# Altium schematic symbol library AltiumLibraries.SchLib: 565 symbols (part 4 of 5)
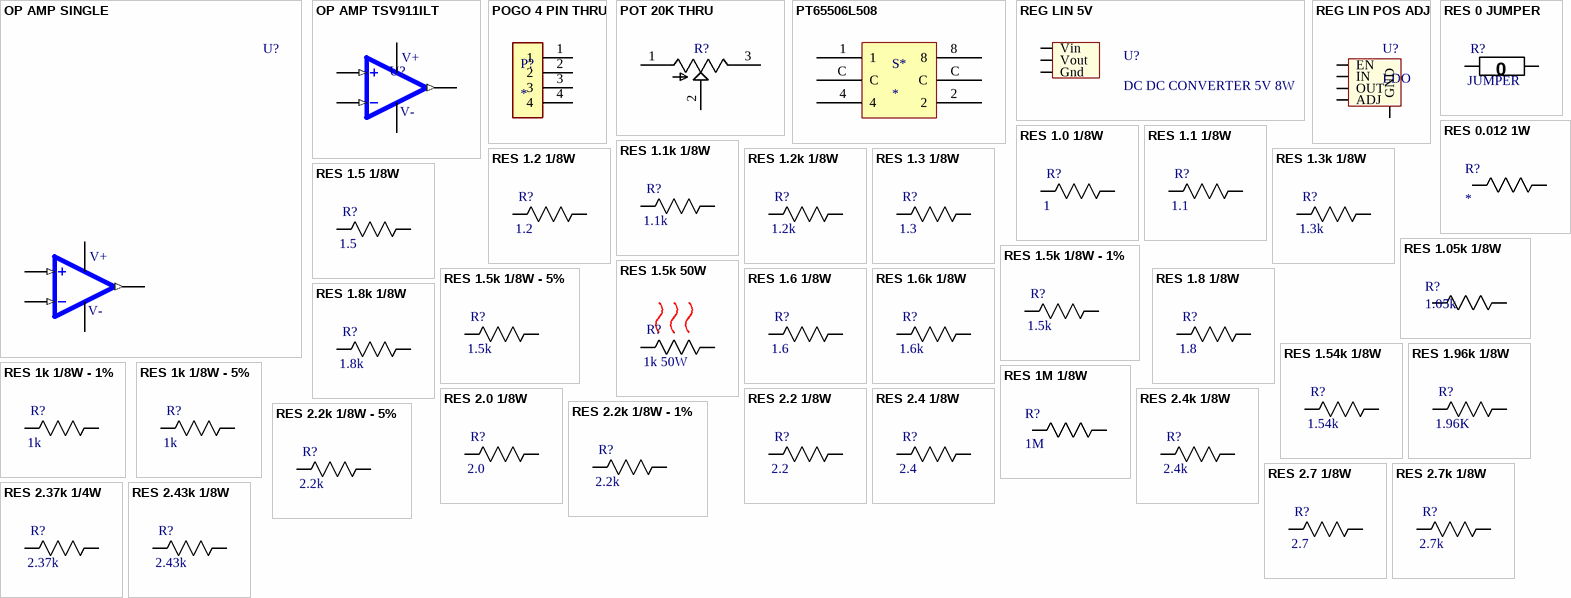
[diagram p18: symbols OP AMP SINGLE to RES 2.43k 1/8W]

## POT 20K THRU
designator R?, comment 20K  (value not drawn)
TRIMMER 20K OHM 0.5W PC PIN TOP - Phillips Screw head; MF: Bourns Inc.; MP: 3362P-1-203RLF; ComponentLink1Description: Digikey Link; ComponentLink1URL: https://www.digikey.ca/product-detail/en/bourns-inc/3362P-1-203RLF/3362P-1-203RLFCT-ND/3767981; Digikey: 3362P-1-203RLF; Package: Through Hole; Price: 3.05 CAD; ComponentLink2Description: SnapEDA Link (205, since 203 DNE); ComponentLink2URL: https://www.snapeda.com/parts/3362P-1-205LF/Bourns%20-%20J.W.%20Miller/view-part/463695/
footprint Potentiometer 20K
pins: 1 CCW, 2 WIPER, 3 CW

## PT65506L508
designator S*
Rotary Dip Switch - 16 position Hexadecimal Complement Through Hole, Right Angle Rotary with Knob Actuator 150mA 24VDC; MF: APEM Inc.; MP: PT65506L508; ComponentLink1Description: Digikey Link; ComponentLink1URL: https://www.digikey.com/en/products/detail/apem-inc/PT65506L508/1797072; ComponentLink2Description: SnapEDA Link; ComponentLink2URL: https://www.snapeda.com/parts/PT65506L508/APEM%20Inc./view-part/?ref=search&t=PT65506L508; Digikey: PT65506L508; Package: Through Hole Right Angle; Price: $5.48240
footprint PT65506L508 (Rotary Dip Switch Hexadecimal Complement 16 Position Through Hole, Right Angle Rotary with Knob Actuator 150mA 24VDC)
pins: 1, 2, 4, 8, C, C

## REG LIN 5V
designator U?, comment DC DC CONVERTER 5V 8W
Linear Regulator Replacement DC DC Converter 1 Output 5V 1.5A 7V - 36V Input; MF: Murata Power Solutions Inc.; MP: OKI-78SR-5/1.5-W36H-C; ComponentLink1Description: digikey; ComponentLink1URL: https://www.digikey.ca/product-detail/en/murata-power-solutions-inc/OKI-78SR-5-1.5-W36H-C/811-2692-ND/3438675; Digikey: 811-2692-ND; Digikey Link: https://www.digikey.ca/products/en?keywords=OKI-78SR-5%2F1.5-W36H-C; Output Voltage: 5V; Power: 8W; Output Current (Max): 1.5A; Supplier 1: Digi-Key; Supplier Part Number 1: 811-2692-ND
footprint 3-SIP R/A
pins: Gnd, Vin, Vout

## REG LIN POS ADJ
designator U?, comment LDO
Linear Voltage Regulator IC  1 Output  500mA 8-SOIC; MF: Texas Instruments; MP: TL5209DR; Digikey: 296-21569-1-ND; Digikey Link: https://www.digikey.ca/product-detail/en/texas-instruments/TL5209DR/296-21569-1-ND/1427137; Price: 1.548 CAD; Rating: 500mA; Package: 8 SOIC; Supplier 1: Digi-Key; Supplier Part Number 1: 296-21569-1-ND
footprint REG LIN POS ADJ 500MA 8SOIC (Linear Voltage Regulator IC  1 Output  500mA 8-SOIC)
pins: ADJ, EN, GND, IN, OUT

## RES 0 JUMPER
designator R?, comment JUMPER
RES SMD 0 OHM JUMPER GENERIC 0805/0603; Value: 0; Package: 0805
footprint 0805
footprint 0603
pins: 1 R1, 2 R2

## RES 0.012 1W
designator R?
footprint 1206
pins: 1 R1, 2 R2

## RES 1.0 1/8W
designator R?, comment 1
RES SMD 1.0 OHM 5% 1/8W 0805; Power (Watts): 0.125W; Package: 0805; Value: 1; Tolerance: 5%
footprint 0805
footprint 0603
pins: 1 R1, 2 R2

## RES 1.1 1/8W
designator R?, comment 1.1
RES SMD 1.1 OHM 5% 1/8W 0805; Power (Watts): 0.125W; Package: 0805; Value: 1.1; Tolerance: 5%
footprint 0805
footprint 0603
pins: 1 R1, 2 R2

## RES 1.1k 1/8W
designator R?, comment 1.1k
RES SMD 1.1K OHM 5% 1/8W 0805; Power (Watts): 0.125W; Package: 0805; Value: 1.1k; Tolerance: 5%
footprint 0805
footprint 0603
pins: 1 R1, 2 R2

## RES 1.2 1/8W
designator R?, comment 1.2
RES SMD 1.2 OHM 5% 1/8W 0805; Power (Watts): 0.125W; Package: 0805; Value: 1.2; Tolerance: 5%
footprint 0805
footprint 0603
pins: 1 R1, 2 R2

## RES 1.2k 1/8W
designator R?, comment 1.2k
RES SMD 1.2K OHM 5% 1/8W 0805; Power (Watts): 0.125W; Package: 0805; Value: 1.2k; Tolerance: 5%
footprint 0805
footprint 0603
pins: 1 R1, 2 R2

## RES 1.3 1/8W
designator R?, comment 1.3
RES SMD 1.3 OHM 5% 1/8W 0805; Power (Watts): 0.125W; Package: 0805; Value: 1.3; Tolerance: 5%
footprint 0805
footprint 0603
pins: 1 R1, 2 R2

## RES 1.3k 1/8W
designator R?, comment 1.3k
RES SMD 1.3K OHM 5% 1/8W 0805; Power (Watts): 0.125W; Package: 0805; Value: 1.3k; Tolerance: 5%
footprint 0805
footprint 0603
pins: 1 R1, 2 R2

## RES 1.5 1/8W
designator R?, comment 1.5
RES SMD 1.5 OHM 5% 1/8W 0805; Power (Watts): 0.125W; Package: 0805; Value: 1.5; Tolerance: 5%
footprint 0805
footprint 0603
pins: 1 R1, 2 R2

## RES 1.05k 1/8W
designator R?, comment 1.05k
RES SMD 1.05K OHM 0.1% 1/8W 0805/0603; Wattage: 0.125W; Supplier 1: Digi-Key; Value: 1.05k; Package: 0805; Tolerance: 0.1%; Supplier Part Number 1: P1.05KDACT-ND
footprint 0805
footprint 0603
pins: 1 R1, 2 R2

## RES 1.5k 1/8W - 1%
designator R?, comment 1.5k
RES SMD 1.5K OHM 1% 1/8W 0805; Power (Watts): 0.125W; Package: 0805; Value: 1.5k; Tolerance: 1%; ComponentLink1Description: digikey; ComponentLink1URL: https://www.digikey.ca/en/products/detail/panasonic-electronic-components/ERJ-6ENF1022V/111476
footprint 0805
footprint 0603
pins: 1 R1, 2 R2

## RES 1.5k 1/8W - 5%
designator R?, comment 1.5k
RES SMD 1.5K OHM 5% 1/8W 0805; Power (Watts): 0.125W; Package: 0805; Value: 1.5k; Tolerance: 5%
footprint 0805
footprint 0603
pins: 1 R1, 2 R2

## RES 1.5k 50W
designator R?, comment 1k 50W
RES SMD 1.5K OHM 1% 50W D2PAK; Package: D2PAK (TO-263); Value: 1.5k; Power (Watts): 50W; Tolerance: 1%
footprint D2PAK (TO-263)
pins: 1 R1, 2 R2, 3

## RES 1.6 1/8W
designator R?, comment 1.6
RES SMD 1.6 OHM 5% 1/8W 0805; Power (Watts): 0.125W; Package: 0805; Value: 1.6; Tolerance: 5%
footprint 0805
footprint 0603
pins: 1 R1, 2 R2

## RES 1.6k 1/8W
designator R?, comment 1.6k
RES SMD 1.6K OHM 5% 1/8W 0805; Power (Watts): 0.125W; Package: 0805; Value: 1.6k; Tolerance: 5%
footprint 0805
footprint 0603
pins: 1 R1, 2 R2

## RES 1.8 1/8W
designator R?, comment 1.8
RES SMD 1.8 OHM 5% 1/8W 0805; Power (Watts): 0.125W; Package: 0805; Value: 1.8; Tolerance: 5%
footprint 0805
footprint 0603
pins: 1 R1, 2 R2

## RES 1.8k 1/8W
designator R?, comment 1.8k
RES SMD 1.8K OHM 5% 1/8W 0805; Power (Watts): 0.125W; Package: 0805; Value: 1.8k; Tolerance: 5%
footprint 0805
footprint 0603
pins: 1 R1, 2 R2

## RES 1.54k 1/8W
designator R?, comment 1.54k
RES SMD 1.54K OHM 1% 1/8W 0805; Power (Watts): 0.125W; Package: 0805; Value: 1.54k; Tolerance: 1%
footprint 0805
footprint 0603
pins: 1 R1, 2 R2

## RES 1.96k 1/8W
designator R?, comment 1.96K
RES SMD 1.96K OHM 1% 1/8W 0805; Power (Watts): 0.125W; Package: 0805; Value: 1.96k; Tolerance: 1%
footprint 0805
footprint 0603
pins: 1 R1, 2 R2

## RES 1k 1/8W - 1%
designator R?, comment 1k
RES SMD 1K OHM 1% 1/8W 0603/0805; Power (Watts): 0.125W; Package: 0805; Value: 1k; Tolerance: 1%
footprint 0805
footprint 0603
pins: 1 R1, 2 R2

## RES 1k 1/8W - 5%
designator R?, comment 1k
RES SMD 1K OHM 5% 1/8W 0603/0805; Power (Watts): 0.125W; Package: 0805; Value: 1k; Tolerance: 5%
footprint 0805
footprint 0603
pins: 1 R1, 2 R2

## RES 1M 1/8W
designator R?, comment 1M
RES SMD 1M OHM 0.1% 1/8W 0805; Power (Watts): 0.125W; Tolerance: 5%; Package: 0805; Value: 1M
footprint 0805
pins: 1 R1, 2 R2

## RES 2.0 1/8W
designator R?, comment 2.0
RES SMD 2.0 OHM 5% 1/8W 0805; Power (Watts): 0.125W; Package: 0805; Value: 2.0; Tolerance: 5%
footprint 0805
footprint 0603
pins: 1 R1, 2 R2

## RES 2.2 1/8W
designator R?, comment 2.2
RES SMD 2.2 OHM 5% 1/8W 0805; Power (Watts): 0.125W; Package: 0805; Value: 2.2; Tolerance: 5%
footprint 0805
footprint 0603
pins: 1 R1, 2 R2

## RES 2.2k 1/8W - 1%
designator R?, comment 2.2k
RES SMD 2.2K OHM 1% 1/8W 0805; Power (Watts): 0.125W; Package: 0805; Value: 2.2k; Tolerance: 1%
footprint 0805
footprint 0603
pins: 1 R1, 2 R2

## RES 2.2k 1/8W - 5%
designator R?, comment 2.2k
RES SMD 2.2K OHM 5% 1/8W 0805; Power (Watts): 0.125W; Package: 0805; Value: 2.2k; Tolerance: 5%
footprint 0805
footprint 0603
pins: 1 R1, 2 R2

## RES 2.4 1/8W
designator R?, comment 2.4
RES SMD 2.4 OHM 5% 1/8W 0805; Power (Watts): 0.125W; Package: 0805; Value: 2.4; Tolerance: 5%
footprint 0805
footprint 0603
pins: 1 R1, 2 R2

## RES 2.4k 1/8W
designator R?, comment 2.4k
RES SMD 2.4K OHM 5% 1/8W 0805; Power (Watts): 0.125W; Package: 0805; Value: 2.4k; Tolerance: 5%
footprint 0805
footprint 0603
pins: 1 R1, 2 R2

## RES 2.7 1/8W
designator R?, comment 2.7
RES SMD 2.7 OHM 5% 1/8W 0805; Power (Watts): 0.125W; Package: 0805; Value: 2.7; Tolerance: 5%
footprint 0805
footprint 0603
pins: 1 R1, 2 R2

## RES 2.7k 1/8W
designator R?, comment 2.7k
RES SMD 2.7K OHM 5% 1/8W 0805; Power (Watts): 0.125W; Package: 0805; Value: 2.7k; Tolerance: 5%
footprint 0805
footprint 0603
pins: 1 R1, 2 R2

## RES 2.37k 1/4W
designator R?, comment 2.37k
RES SMD 2.37K OHM 1% 1/4W 0805; Power (Watts): 0.25W; Package: 0805; Value: 2.37k; Tolerance: 1%
footprint 0805
footprint 0603
pins: 1 R1, 2 R2

## RES 2.43k 1/8W
designator R?, comment 2.43k
RES SMD 2.43K OHM 5% 1/8W 0805; Power (Watts): 0.125W; Package: 0805; Value: 2.43k; Tolerance: 5%
footprint 0805
footprint 0603
pins: 1 R1, 2 R2

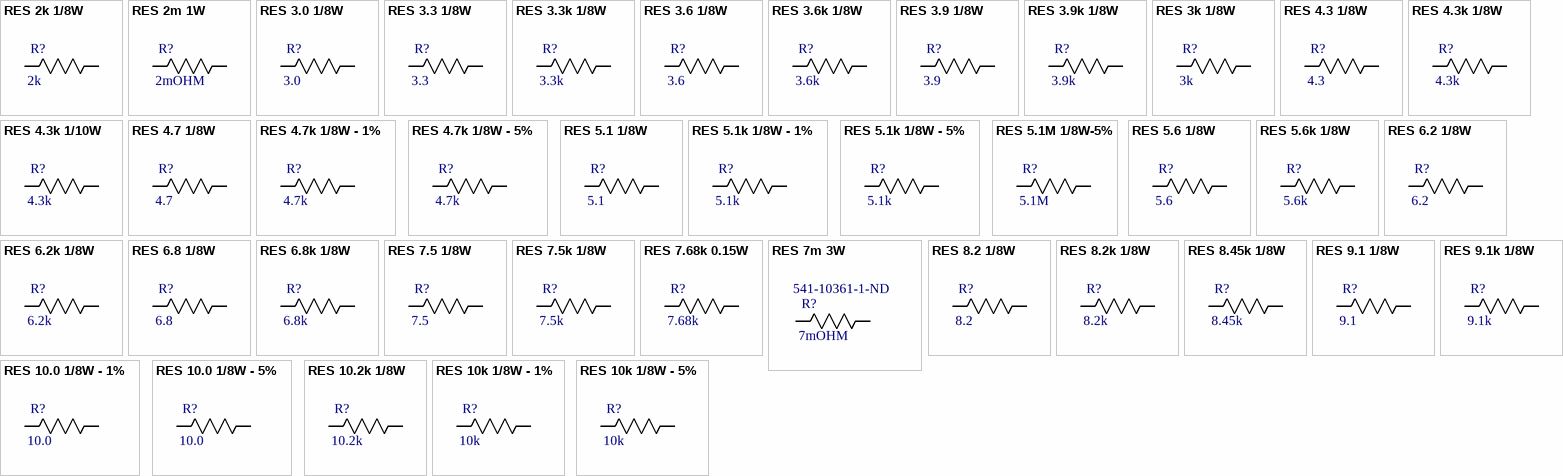
[diagram p9: symbols RES 2k 1/8W to RES 10k 1/8W - 5%]

## RES 2k 1/8W
designator R?, comment 2k
RES SMD 2K OHM 5% 1/8W 0805; Power (Watts): 0.125W; Package: 0805; Value: 2k; Tolerance: 5%
footprint 0805
footprint 0603
pins: 1 R1, 2 R2

## RES 2m 1W
designator R?, comment 2mOHM
RES SMD 2m OHM 1% 1W 1206; Package: 1206; Resistance: 2mOHM; Power (Watts): 1W; Tolerance: 1%
footprint 1206
footprint 2512 (Chip Resistor, 2-Leads, Body 6.35x3.10mm, IPC Low Density)
pins: 1 R1, 2 R2

## RES 3.0 1/8W
designator R?, comment 3.0
RES SMD 3.0 OHM 5% 1/8W 0805; Power (Watts): 0.125W; Package: 0805; Value: 3.0; Tolerance: 5%
footprint 0805
footprint 0603
pins: 1 R1, 2 R2

## RES 3.3 1/8W
designator R?, comment 3.3
RES SMD 3.3 OHM 5% 1/8W 0805; Power (Watts): 0.125W; Package: 0805; Value: 3.3; Tolerance: 5%
footprint 0805
footprint 0603
pins: 1 R1, 2 R2

## RES 3.3k 1/8W
designator R?, comment 3.3k
RES SMD 3.3K OHM 5% 1/8W 0805; Power (Watts): 0.125W; Package: 0805; Value: 3.3k; Tolerance: 5%
footprint 0805
footprint 0603
pins: 1 R1, 2 R2

## RES 3.6 1/8W
designator R?, comment 3.6
RES SMD 3.6 OHM 5% 1/8W 0805; Power (Watts): 0.125W; Package: 0805; Value: 3.6; Tolerance: 5%
footprint 0805
footprint 0603
pins: 1 R1, 2 R2

## RES 3.6k 1/8W
designator R?, comment 3.6k
RES SMD 3.6K OHM 5% 1/8W 0805; Power (Watts): 0.125W; Package: 0805; Value: 3.6k; Tolerance: 5%
footprint 0805
footprint 0603
pins: 1 R1, 2 R2

## RES 3.9 1/8W
designator R?, comment 3.9
RES SMD 3.9 OHM 5% 1/8W 0805; Power (Watts): 0.125W; Package: 0805; Value: 3.9; Tolerance: 5%
footprint 0805
footprint 0603
pins: 1 R1, 2 R2

## RES 3.9k 1/8W
designator R?, comment 3.9k
RES SMD 3.9K OHM 5% 1/8W 0805; Power (Watts): 0.125W; Package: 0805; Value: 3.9k; Tolerance: 5%
footprint 0805
footprint 0603
pins: 1 R1, 2 R2

## RES 3k 1/8W
designator R?, comment 3k
RES SMD 3K OHM 5% 1/8W 0805; Power (Watts): 0.125W; Package: 0805; Value: 3k; Tolerance: 5%
footprint 0805
footprint 0603
pins: 1 R1, 2 R2

## RES 4.3 1/8W
designator R?, comment 4.3
RES SMD 4.3 OHM 5% 1/8W 0805; Power (Watts): 0.125W; Package: 0805; Value: 4.3; Tolerance: 5%
footprint 0805
footprint 0603
pins: 1 R1, 2 R2

## RES 4.3k 1/8W
designator R?, comment 4.3k
RES SMD 4.3K OHM 5% 1/8W 0805; Power (Watts): 0.125W; Package: 0805; Value: 4.3k; Tolerance: 5%
footprint 0805
footprint 0603
pins: 1 R1, 2 R2

## RES 4.3k 1/10W
designator R?, comment 4.3k
RES SMD 4.3K OHM 1% 1/10W 0603; Power (Watts): 0.1W; Tolerance: 5%; Package: 0603; Value: 4.3k
footprint 0603
pins: 1 R1, 2 R2

## RES 4.7 1/8W
designator R?, comment 4.7
RES SMD 4.7 OHM 5% 1/8W 0805; Power (Watts): 0.125W; Package: 0805; Value: 4.7; Tolerance: 5%
footprint 0805
footprint 0603
pins: 1 R1, 2 R2

## RES 4.7k 1/8W - 1%
designator R?, comment 4.7k
RES SMD 4.7k OHM 1% 1/8W 0805; Power (Watts): 0.125W; Package: 0805; Value: 4.7k; Tolerance: 1%
footprint 0805
footprint 0603
pins: 1 R1, 2 R2

## RES 4.7k 1/8W - 5%
designator R?, comment 4.7k
RES SMD 4.7k OHM 5% 1/8W 0805; Power (Watts): 0.125W; Package: 0805; Value: 4.7k; Tolerance: 5%
footprint 0805
footprint 0603
pins: 1 R1, 2 R2

## RES 5.1 1/8W
designator R?, comment 5.1
RES SMD 5.1 OHM 5% 1/8W 0805; Power (Watts): 0.125W; Package: 0805; Value: 5.1; Tolerance: 5%
footprint 0805
footprint 0603
pins: 1 R1, 2 R2

## RES 5.1k 1/8W - 1%
designator R?, comment 5.1k
RES SMD 5.1K OHM 1% 1/8W 0805; Power (Watts): 0.125W; Package: 0805; Value: 5.1k; Tolerance: 1%
footprint 0805
footprint 0603
pins: 1 R1, 2 R2

## RES 5.1k 1/8W - 5%
designator R?, comment 5.1k
RES SMD 5.1K OHM 5% 1/8W 0805; Power (Watts): 0.125W; Package: 0805; Value: 5.1k; Tolerance: 5%
footprint 0805
footprint 0603
pins: 1 R1, 2 R2

## RES 5.1M 1/8W-5%
designator R?, comment 5.1M
RES SMD 5.1 MOHM 5% 1/8W 0805; Power (Watts): 0.125W; Package: 0805; Value: 5.1M; Tolerance: 5%
footprint 0805
footprint 0603
pins: 1 R1, 2 R2

## RES 5.6 1/8W
designator R?, comment 5.6
RES SMD 5.6 OHM 5% 1/8W 0805; Power (Watts): 0.125W; Package: 0805; Value: 5.6; Tolerance: 5%
footprint 0805
footprint 0603
pins: 1 R1, 2 R2

## RES 5.6k 1/8W
designator R?, comment 5.6k
RES SMD 5.6K OHM 5% 1/8W 0805; Power (Watts): 0.125W; Package: 0805; Value: 5.6k; Tolerance: 5%
footprint 0805
footprint 0603
pins: 1 R1, 2 R2

## RES 6.2 1/8W
designator R?, comment 6.2
RES SMD 6.2 OHM 5% 1/8W 0805; Power (Watts): 0.125W; Package: 0805; Value: 6.2; Tolerance: 5%
footprint 0805
footprint 0603
pins: 1 R1, 2 R2

## RES 6.2k 1/8W
designator R?, comment 6.2k
RES SMD 6.2K OHM 5% 1/8W 0805; Power (Watts): 0.125W; Package: 0805; Value: 6.2k; Tolerance: 5%
footprint 0805
footprint 0603
pins: 1 R1, 2 R2

## RES 6.8 1/8W
designator R?, comment 6.8
RES SMD 6.8 OHM 5% 1/8W 0805; Power (Watts): 0.125W; Package: 0805; Value: 6.8; Tolerance: 5%
footprint 0805
footprint 0603
pins: 1 R1, 2 R2

## RES 6.8k 1/8W
designator R?, comment 6.8k
RES SMD 6.8K OHM 5% 1/8W 0805; Power (Watts): 0.125W; Package: 0805; Value: 6.8k; Tolerance: 5%
footprint 0805
footprint 0603
pins: 1 R1, 2 R2

## RES 7.5 1/8W
designator R?, comment 7.5
RES SMD 7.5 OHM 5% 1/8W 0805; Power (Watts): 0.125W; Package: 0805; Value: 7.5; Tolerance: 5%
footprint 0805
footprint 0603
pins: 1 R1, 2 R2

## RES 7.5k 1/8W
designator R?, comment 7.5k
RES SMD 7.5K OHM 5% 1/8W 0805; Power (Watts): 0.125W; Package: 0805; Value: 7.5k; Tolerance: 5%
footprint 0805
footprint 0603
pins: 1 R1, 2 R2

## RES 7.68k 0.15W
designator R?, comment 7.68k
RES SMD 7.68K OHM 0.1% 0.15W 0805; Power (Watts): 0.125W; Tolerance: 5%; Package: 0805; Value: 7.68k
footprint 0805
footprint 0603
pins: 1 R1, 2 R2

## RES 7m 3W
designator R?, comment 7mOHM  Supplier Part Number 1: 541-10361-1-ND
RES SMD 7m OHM 1% 3W 2512; MFG: VISHAY; Package: 1206; Resistance: 7mOHM; Power (Watts): 3W; Tolerance: 1%; ComponentLink1Description: Digikey Link; ComponentLink1URL: https://www.digikey.com/en/products/detail/vishay-dale/WFMB2512R0500FEA/9972278; Digikey: 541-10282-1-ND; Supplier 1: Digi-Key
footprint 2512 (Chip Resistor, 2-Leads, Body 6.35x3.10mm, IPC Low Density)
pins: 1 R1, 2 R2

## RES 8.2 1/8W
designator R?, comment 8.2
RES SMD 8.2 OHM 5% 1/8W 0805; Power (Watts): 0.125W; Package: 0805; Value: 8.2; Tolerance: 5%
footprint 0805
footprint 0603
pins: 1 R1, 2 R2

## RES 8.2k 1/8W
designator R?, comment 8.2k
RES SMD 8.2K OHM 5% 1/8W 0805; Power (Watts): 0.125W; Package: 0805; Value: 8.2k; Tolerance: 5%
footprint 0805
footprint 0603
pins: 1 R1, 2 R2

## RES 8.45k 1/8W
designator R?, comment 8.45k
RES SMD 8.45k OHM 1% 1/8W 0603; Power (Watts): 0.125W; Package: 0603; Value: 8.45k; Tolerance: 1%
footprint 0603
pins: 1 R1, 2 R2

## RES 9.1 1/8W
designator R?, comment 9.1
RES SMD 9.1 OHM 5% 1/8W 0805; Power (Watts): 0.125W; Package: 0805; Value: 9.1; Tolerance: 5%
footprint 0805
footprint 0603
pins: 1 R1, 2 R2

## RES 9.1k 1/8W
designator R?, comment 9.1k
RES SMD 9.1K OHM 5% 1/8W 0805; Power (Watts): 0.125W; Package: 0805; Value: 9.1k; Tolerance: 5%
footprint 0805
footprint 0603
pins: 1 R1, 2 R2

## RES 10.0 1/8W - 1%
designator R?, comment 10.0
RES SMD 10.0 OHM 1% 1/8W 0805; Power (Watts): 0.125W; Package: 0805; Value: 10.0; Tolerance: 1%
footprint 0805
footprint 0603
pins: 1 R1, 2 R2

## RES 10.0 1/8W - 5%
designator R?, comment 10.0
RES SMD 10.0 OHM 5% 1/8W 0805; Power (Watts): 0.125W; Package: 0805; Value: 10.0; Tolerance: 5%
footprint 0805
footprint 0603
pins: 1 R1, 2 R2

## RES 10.2k 1/8W
designator R?, comment 10.2k
RES SMD 10.2K OHM 1% 1/8W 0805; Power (Watts): 0.125W; Package: 0805; Value: 10.2k; Tolerance: 1%; ComponentLink1Description: digikey; ComponentLink1URL: https://www.digikey.ca/en/products/detail/panasonic-electronic-components/ERJ-6ENF1022V/111476
footprint 0805
footprint 0603
pins: 1 R1, 2 R2

## RES 10k 1/8W - 1%
designator R?, comment 10k
RES SMD 10K OHM 1% 1/8W 0805/0603; Power (Watts): 0.125W; Package: 0805; Value: 10k; Tolerance: 1%
footprint 0805
footprint 0603
pins: 1 R1, 2 R2

## RES 10k 1/8W - 5%
designator R?, comment 10k
RES SMD 10K OHM 5% 1/8W 0805/0603; Power (Watts): 0.125W; Package: 0805; Value: 10k; Tolerance: 5%
footprint 0805
footprint 0603
pins: 1 R1, 2 R2

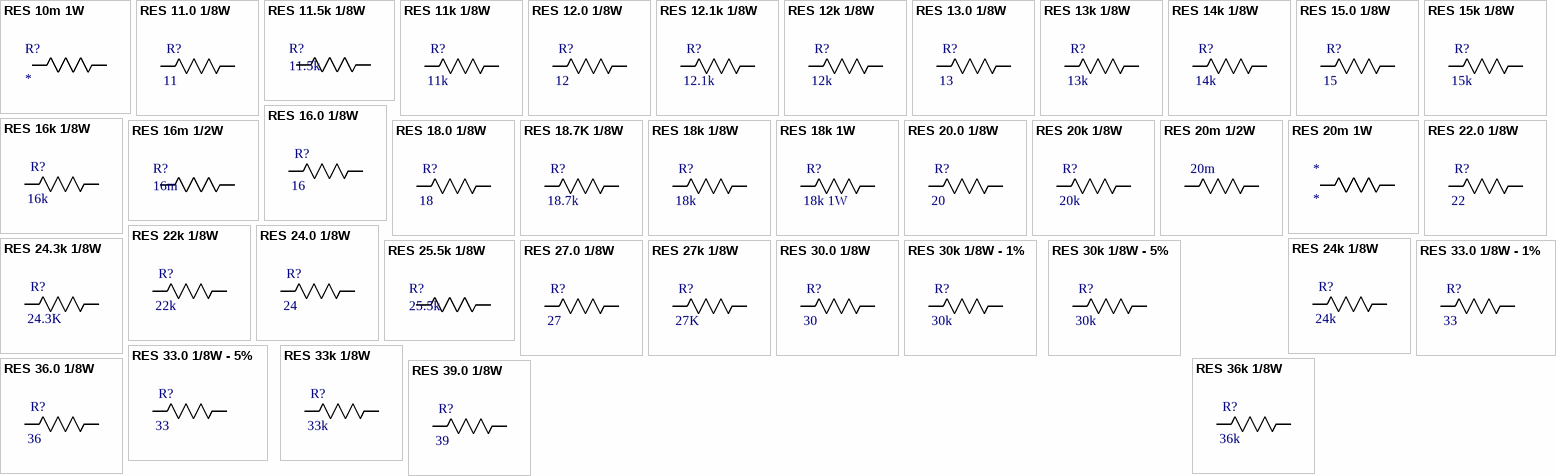
[diagram p10: symbols RES 10m 1W to RES 39.0 1/8W]

## RES 10m 1W
designator R?
RES SMD 0.02 OHM 1% 1W 1206
footprint 1206
pins: 1 R1, 2 R2

## RES 11.0 1/8W
designator R?, comment 11
RES SMD 11 OHM 5% 1/8W 0805; Power (Watts): 0.125W; Package: 0805; Value: 11; Tolerance: 5%
footprint 0805
footprint 0603
pins: 1 R1, 2 R2

## RES 11.5k 1/8W
designator R?, comment 11.5k
RES SMD 11.5K OHM 0.1% 1/8W 0805 Thin Film; Manufacturer: Panasonic; Manufacturer Part Number: ERA-6AEB1152V; Power Rating: 125mW; Resistance: 11.5kR; Voltage Rating: 100V; Temperature Coefficient: 25ppm/°C; Supplier 1: Digi-Key; RoHS: Yes; Category: Chip SMD Resistors; Stock 1: 10661; Pricing 1: 1=0.34000, 10=0.28800, 100=0.11260, 1000=0.04712, 2500=0.04320 (USD); Mount: Surface Mount; Case/Package: 0805; Number of Pins: 2; Case Code (Metric): 2012; Case Code (Imperial): 0805; Contact Plating: Tin; Min Operating Temperature: -55°C; Max Operating Temperature: 155°C; Tolerance: 0.1%; Packaging: Tape and Reel; Max Power Dissipation: 125mW; Composition: Thin Film,Metal Film; Number of Terminations: 2; Voltage Rating (DC): 100V; Termination: Solder; Military Standard: Not; Package Quantity: 1; Features: Automotive AEC-Q200; Length: 2mm; Height: 0.5mm; Width: 1.25mm; Depth: 1.25mm; Radiation Hardening: No; Lead Free: Lead Free; ComponentLink1URL: https://datasheet.ciiva.com/11810/0900766b80eb1d8c-11810868.pdf?src-supplier=RSComponents; ComponentLink1Description: https://datasheet.ciiva.com/11810/0900766b80eb1d8c-11810868.pdf?src-supplier=RSComponents; ComponentLink2URL: https://datasheet.ciiva.com/41450/001181306-da-01-en-widerstand-era-0805-11k5-0-1-5000st-41450464.pdf?src-supplier=Conrad; ComponentLink2Description: https://datasheet.ciiva.com/41450/001181306-da-01-en-widerstand-era-0805-11k5-0-1-5000st-41450464.pdf?src-supplier=Conrad; ComponentLink3URL: https://datasheet.ciiva.com/5987/485442-5987301.pdf?src-supplier=Farnell; ComponentLink3Description: https://datasheet.ciiva.com/5987/485442-5987301.pdf?src-supplier=Farnell; ComponentLink4URL: https://datasheet.ciiva.com/7829/485442-7829142.pdf?src-supplier=Element14; ComponentLink4Description: https://datasheet.ciiva.com/7829/485442-7829142.pdf?src-supplier=Element14; ComponentLink5URL: https://datasheet.ciiva.com/17211/aoa0000ce26-17211855.pdf?src-supplier=Avnet+Europe; ComponentLink5Description: https://datasheet.ciiva.com/17211/aoa0000ce26-17211855.pdf?src-supplier=Avnet+Europe; ComponentLink6URL: https://datasheet.ciiva.com/7829/485442-7829143.pdf?src-supplier=Element14; ComponentLink6Description: https://datasheet.ciiva.com/7829/485442-7829143.pdf?src-supplier=Element14; ComponentLink7URL: https://datasheet.ciiva.com/9193/aoa0000ce26-9193735.pdf?src-supplier=Avnet; ComponentLink7Description: https://datasheet.ciiva.com/9193/aoa0000ce26-9193735.pdf?src-supplier=Avnet; ComponentLink8URL: https://datasheet.ciiva.com/24024/aoa0000ce26-197354-24024328.pdf?src-supplier=Mouser; ComponentLink8Description: https://datasheet.ciiva.com/24024/aoa0000ce26-197354-24024328.pdf?src-supplier=Mouser; Supplier Part Number 1: P11.5KDACT-ND
footprint 0805
footprint 0603
pins: 1 R1, 2 R2

## RES 11k 1/8W
designator R?, comment 11k
RES SMD 11k OHM 5% 1/8W 0805; Power (Watts): 0.125W; Package: 0805; Value: 11k; Tolerance: 5%
footprint 0805
footprint 0603
pins: 1 R1, 2 R2

## RES 12.0 1/8W
designator R?, comment 12
RES SMD 12 OHM 5% 1/8W 0805; Power (Watts): 0.125W; Package: 0805; Value: 12; Tolerance: 5%
footprint 0805
footprint 0603
pins: 1 R1, 2 R2

## RES 12.1k 1/8W
designator R?, comment 12.1k
RES SMD 12.1K OHM 1% 1/8W 0805; Power (Watts): 0.125W; Package: 0805; Value: 12.1k; Tolerance: 1%
footprint 0805
footprint 0603
pins: 1 R1, 2 R2

## RES 12k 1/8W
designator R?, comment 12k
RES SMD 12K OHM 5% 1/8W 0805; Power (Watts): 0.125W; Package: 0805; Value: 12k; Tolerance: 5%
footprint 0805
footprint 0603
pins: 1 R1, 2 R2

## RES 13.0 1/8W
designator R?, comment 13
RES SMD 13 OHM 5% 1/8W 0805; Power (Watts): 0.125W; Package: 0805; Value: 13; Tolerance: 5%
footprint 0805
footprint 0603
pins: 1 R1, 2 R2

## RES 13k 1/8W
designator R?, comment 13k
RES SMD 13K OHM 5% 1/8W 0805/0603; Power (Watts): 0.125W; Package: 0805; Value: 13k; Tolerance: 5%
footprint 0805
footprint 0603
pins: 1 R1, 2 R2

## RES 14k 1/8W
designator R?, comment 14k
RES SMD 14K OHM 1% 1/8W 0805; Power (Watts): 0.125W; Package: 0805; Value: 14k; Tolerance: 1%; ComponentLink1Description: digikey; ComponentLink1URL: https://www.digikey.ca/en/products/detail/yageo/RC0805FR-0714KL/727596
footprint 0805
footprint 0603
pins: 1 R1, 2 R2

## RES 15.0 1/8W
designator R?, comment 15
RES SMD 15 OHM 5% 1/8W 0805; Power (Watts): 0.125W; Package: 0805; Value: 15; Tolerance: 5%
footprint 0805
footprint 0603
pins: 1 R1, 2 R2

## RES 15k 1/8W
designator R?, comment 15k
RES SMD 15K OHM 5% 1/8W 0805; Power (Watts): 0.125W; Package: 0805; Value: 15k; Tolerance: 5%
footprint 0805
footprint 0603
pins: 1 R1, 2 R2

## RES 16.0 1/8W
designator R?, comment 16
RES SMD 16 OHM 5% 1/8W 0805; Power (Watts): 0.125W; Package: 0805; Value: 16; Tolerance: 5%
footprint 0805
footprint 0603
pins: 1 R1, 2 R2

## RES 16k 1/8W
designator R?, comment 16k
RES SMD 16K OHM 5% 1/8W 0805; Power (Watts): 0.125W; Package: 0805; Value: 16k; Tolerance: 5%
footprint 0805
footprint 0603
pins: 1 R1, 2 R2

## RES 16m 1/2W
designator R?, comment 16m
RES SMD 0.016 OHM 1% 1/2W 0805 Thick Film; Manufacturer: Panasonic; Manufacturer Part Number: ERJ-6BWFR016V; Resistance: 16mR; Power Rating: 500mW; Temperature Coefficient: 200ppm/°C; Supplier 1: Digi-Key; RoHS: Yes; Category: Chip SMD Resistors; Stock 1: 4585; Pricing 1: 1=0.65000, 10=0.53800, 100=0.36140, 1000=0.21148, 2500=0.20917 (USD); Mount: Surface Mount; Case/Package: 0805; Number of Pins: 2; Contact Plating: Tin; Case Code (Metric): 2012; Case Code (Imperial): 0805; Min Operating Temperature: -55°C; Max Operating Temperature: 155°C; Tolerance: 1%; Packaging: Tape and Reel; Package Quantity: 1; Features: Automotive AEC-Q200; Max Power Dissipation: 500mW; Composition: Thick Film; Number of Terminations: 2; Termination: SMD/SMT; Military Standard: Not; Length: 2mm; Height: 0.028inch; Width: 0.049inch; Depth: 1.25mm; Radiation Hardening: No; Lead Free: Lead Free; ComponentLink1URL: https://datasheet.ciiva.com/11808/0900766b8126441d-11808690.pdf?src-supplier=RSComponents; ComponentLink1Description: https://datasheet.ciiva.com/11808/0900766b8126441d-11808690.pdf?src-supplier=RSComponents; ComponentLink2URL: https://datasheet.ciiva.com/2452/aoa0000ce3-2452594.pdf?src-supplier=Digi-Key; ComponentLink2Description: https://datasheet.ciiva.com/2452/aoa0000ce3-2452594.pdf?src-supplier=Digi-Key; ComponentLink3URL: https://datasheet.ciiva.com/2452/aoa0000ce3-2452592.pdf?src-supplier=Digi-Key; ComponentLink3Description: https://datasheet.ciiva.com/2452/aoa0000ce3-2452592.pdf?src-supplier=Digi-Key; ComponentLink4URL: https://datasheet.ciiva.com/2452/aoa0000ce3-2452593.pdf?src-supplier=Digi-Key; ComponentLink4Description: https://datasheet.ciiva.com/2452/aoa0000ce3-2452593.pdf?src-supplier=Digi-Key; ComponentLink5URL: https://datasheet.ciiva.com/9192/aoa0000ce3-9192761.pdf?src-supplier=Avnet; ComponentLink5Description: https://datasheet.ciiva.com/9192/aoa0000ce3-9192761.pdf?src-supplier=Avnet; ComponentLink6URL: https://datasheet.ciiva.com/17211/aoa0000ce3-17211370.pdf?src-supplier=Avnet+Europe; ComponentLink6Description: https://datasheet.ciiva.com/17211/aoa0000ce3-17211370.pdf?src-supplier=Avnet+Europe; Supplier Part Number 1: P.016AQCT-ND
footprint 0805
footprint 0603
pins: 1 R1, 2 R2

## RES 18.0 1/8W
designator R?, comment 18
RES SMD 18 OHM 5% 1/8W 0805; Power (Watts): 0.125W; Package: 0805; Value: 18; Tolerance: 5%
footprint 0805
footprint 0603
pins: 1 R1, 2 R2

## RES 18.7K 1/8W
designator R?, comment 18.7k
RES SMD 18.7K OHM 1% 1/8W 0805; Power (Watts): 0.125W; Alternative Package: 1206; Value: 18.7k; Tolerance: 1%; Package: 0805
footprint 0805
footprint 1206
footprint 0603
pins: 1 R1, 2 R2

## RES 18k 1/8W
designator R?, comment 18k
RES SMD 18K OHM 5% 1/8W 0805; Power (Watts): 0.125W; Package: 0805; Value: 18k; Tolerance: 5%
footprint 0805
footprint 0603
pins: 1 R1, 2 R2

## RES 18k 1W
designator R?, comment 18k 1W
RES SMD 18K OHM 5% 1W 2512; Package: 0805; Value: 18k; Power (Watts): 1W; Tolerance: 5%
footprint 2512 (Chip Resistor, 2-Leads, Body 6.35x3.10mm, IPC Low Density)
pins: 1 R1, 2 R2

## RES 20.0 1/8W
designator R?, comment 20
RES SMD 20 OHM 5% 1/8W 0805; Power (Watts): 0.125W; Package: 0805; Value: 20; Tolerance: 5%
footprint 0805
footprint 0603
pins: 1 R1, 2 R2

## RES 20k 1/8W
designator R?, comment 20k
RES SMD 20K OHM 5% 1/8W 0805; Power (Watts): 0.125W; Package: 0805; Value: 20k; Tolerance: 5%
footprint 0805
footprint 0603
pins: 1 R1, 2 R2

## RES 20m 1/2W
designator 20m
RES SMD 0.02 OHM 1% 1/2W 0805; Value: 20mOHM; Power (Watts): 0.5W; Package: 0805; Tolerance: 1%; Alternative Value: 0.02 OHM
footprint 0805
footprint 0603
pins: 1 R1, 2 R2

## RES 20m 1W
designator *
RES SMD 0.02 OHM 1% 1W 1206
footprint 1206
pins: 1 R1, 2 R2

## RES 22.0 1/8W
designator R?, comment 22
RES SMD 22 OHM 5% 1/8W 0805; Power (Watts): 0.125W; Package: 0805; Value: 22; Tolerance: 5%
footprint 0805
footprint 0603
pins: 1 R1, 2 R2

## RES 22k 1/8W
designator R?, comment 22k
RES SMD 22K OHM 5% 1/8W 0805; Power (Watts): 0.125W; Package: 0805; Value: 22k; Tolerance: 5%
footprint 0805
footprint 0603
pins: 1 R1, 2 R2

## RES 24.0 1/8W
designator R?, comment 24
RES SMD 24 OHM 5% 1/8W 0805; Power (Watts): 0.125W; Package: 0805; Value: 24; Tolerance: 5%
footprint 0805
footprint 0603
pins: 1 R1, 2 R2

## RES 24.3k 1/8W
designator R?, comment 24.3K
RES SMD 24.3K OHM 1% 1/8W 0805; Power (Watts): 0.125W; Package: 0805; Value: 24.3k; Tolerance: 1%
footprint 0805
footprint 0603
pins: 1 R1, 2 R2

## RES 24k 1/8W
designator R?, comment 24k
RES SMD 24K OHM 5% 1/8W 0805; Power (Watts): 0.125W; Package: 0805; Value: 24k; Tolerance: 5%
footprint 0805
footprint 0603
pins: 1 R1, 2 R2

## RES 25.5k 1/8W
designator R?, comment 25.5k
RES SMD 25.5K OHM 0.1% 1/8W 0805/0603; Manufacturer: Panasonic; Manufacturer Part Number: ERA-6AEB2552V; Temperature Coefficient: 25ppm/°C; Max Power Dissipation: 125mW; Resistance: 25.5kR; Voltage Rating: 100V; Supplier 1: Digi-Key; RoHS: Yes; Category: Chip SMD Resistors; Stock 1: 5872; Pricing 1: 1=0.36000, 10=0.30200, 100=0.11820, 1000=0.04948, 2500=0.04536 (USD); Mount: Surface Mount; Case/Package: 0805; Number of Pins: 2; Case Code (Imperial): 0805; Case Code (Metric): 2012; Contact Plating: Tin; Min Operating Temperature: -55°C; Max Operating Temperature: 155°C; Number of Terminations: 2; Features: Automotive AEC-Q200; Tolerance: 0.1%; Composition: Metal Film,Thin Film; Packaging: Tape and Reel; Military Standard: Not; Termination: Solder; Power Rating: 125mW; Package Quantity: 1; Voltage Rating (DC): 100V; Length: 2mm; Height: 0.5mm; Width: 1.25mm; Depth: 1.25mm; Radiation Hardening: No; Lead Free: Lead Free; ComponentLink1URL: https://datasheet.ciiva.com/11810/0900766b80eb1d8c-11810651.pdf?src-supplier=RSComponents; ComponentLink1Description: https://datasheet.ciiva.com/11810/0900766b80eb1d8c-11810651.pdf?src-supplier=RSComponents; ComponentLink2URL: https://datasheet.ciiva.com/26335/459526-da-01-en-widerstand-0805-era-26335831.pdf?src-supplier=Conrad; ComponentLink2Description: https://datasheet.ciiva.com/26335/459526-da-01-en-widerstand-0805-era-26335831.pdf?src-supplier=Conrad; ComponentLink3URL: https://datasheet.ciiva.com/7870/485442-7870651.pdf?src-supplier=Element14; ComponentLink3Description: https://datasheet.ciiva.com/7870/485442-7870651.pdf?src-supplier=Element14; ComponentLink4URL: https://datasheet.ciiva.com/5987/485442-5987308.pdf?src-supplier=Farnell; ComponentLink4Description: https://datasheet.ciiva.com/5987/485442-5987308.pdf?src-supplier=Farnell; ComponentLink5URL: https://datasheet.ciiva.com/7870/485442-7870652.pdf?src-supplier=Element14; ComponentLink5Description: https://datasheet.ciiva.com/7870/485442-7870652.pdf?src-supplier=Element14; ComponentLink6URL: https://datasheet.ciiva.com/30151/54aoa0000ce26-30151583.pdf?src-supplier=Onlinecomponents.com; ComponentLink6Description: https://datasheet.ciiva.com/30151/54aoa0000ce26-30151583.pdf?src-supplier=Onlinecomponents.com; ComponentLink7URL: https://datasheet.ciiva.com/9191/aoa0000ce26-9191422.pdf?src-supplier=Avnet; ComponentLink7Description: https://datasheet.ciiva.com/9191/aoa0000ce26-9191422.pdf?src-supplier=Avnet; Supplier Part Number 1: P25.5KDACT-ND
footprint 0805
footprint 0603
pins: 1 R1, 2 R2

## RES 27.0 1/8W
designator R?, comment 27
RES SMD 27 OHM 5% 1/8W 0805; Power (Watts): 0.125W; Package: 0805; Value: 27; Tolerance: 5%
footprint 0805
footprint 0603
pins: 1 R1, 2 R2

## RES 27k 1/8W
designator R?, comment 27K
RES SMD 27K OHM 5% 1/8W 0805; Power (Watts): 0.125W; Package: 0805; Value: 27k; Tolerance: 5%
footprint 0805
footprint 0603
pins: 1 R1, 2 R2

## RES 30.0 1/8W
designator R?, comment 30
RES SMD 30 OHM 5% 1/8W 0805; Power (Watts): 0.125W; Package: 0805; Value: 30; Tolerance: 5%
footprint 0805
footprint 0603
pins: 1 R1, 2 R2

## RES 30k 1/8W - 1%
designator R?, comment 30k
RES SMD 30K OHM 1% 1/8W 0805; Power (Watts): 0.125W; Package: 0805; Value: 30k; Tolerance: 1%
footprint 0805
footprint 0603
pins: 1 R1, 2 R2

## RES 30k 1/8W - 5%
designator R?, comment 30k
RES SMD 30K OHM 5% 1/8W 0805; Power (Watts): 0.125W; Package: 0805; Value: 30k; Tolerance: 5%
footprint 0805
footprint 0603
pins: 1 R1, 2 R2

## RES 33.0 1/8W - 1%
designator R?, comment 33
RES SMD 33 OHM 1% 1/8W 0805; Power (Watts): 0.125W; Package: 0805; Value: 33; Tolerance: 1%
footprint 0805
footprint 0603 (Chip Resistor, 2-Leads, Body 1.60x0.80mm, IPC High Density)
pins: 1 R1, 2 R2

## RES 33.0 1/8W - 5%
designator R?, comment 33
RES SMD 33 OHM 5% 1/8W 0805; Power (Watts): 0.125W; Package: 0805; Value: 33; Tolerance: 5%
footprint 0805
footprint 0603 (Chip Resistor, 2-Leads, Body 1.60x0.80mm, IPC High Density)
pins: 1 R1, 2 R2

## RES 33k 1/8W
designator R?, comment 33k
RES SMD 33K OHM 5% 1/8W 0805; Power (Watts): 0.125W; Package: 0805; Value: 33k; Tolerance: 5%
footprint 0805
pins: 1 R1, 2 R2

## RES 36.0 1/8W
designator R?, comment 36
RES SMD 36 OHM 5% 1/8W 0805; Power (Watts): 0.125W; Package: 0805; Value: 36; Tolerance: 5%
footprint 0805
pins: 1 R1, 2 R2

## RES 36k 1/8W
designator R?, comment 36k
RES SMD 36K OHM 5% 1/8W 0805; Power (Watts): 0.125W; Package: 0805; Value: 36k; Tolerance: 5%
footprint 0805
pins: 1 R1, 2 R2

## RES 39.0 1/8W
designator R?, comment 39
RES SMD 39 OHM 5% 1/8W 0805; Power (Watts): 0.125W; Package: 0805; Value: 39; Tolerance: 5%
footprint 0805
pins: 1 R1, 2 R2

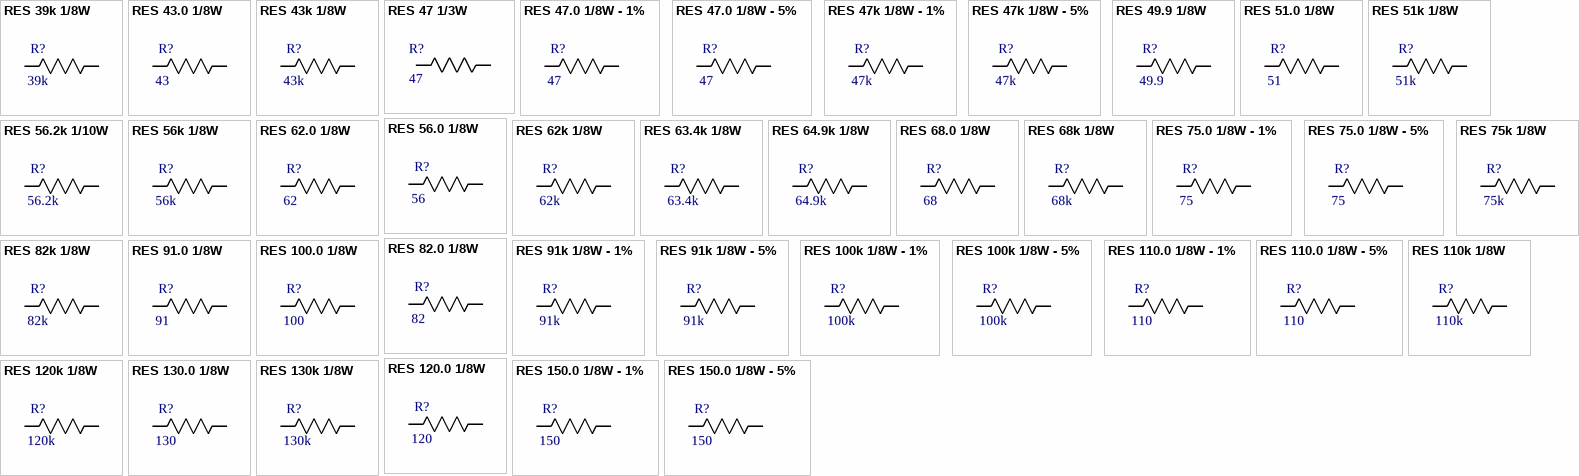
[diagram p11: symbols RES 39k 1/8W to RES 150.0 1/8W - 5%]

## RES 39k 1/8W
designator R?, comment 39k
RES SMD 39K OHM 5% 1/8W 0603/0805; Power (Watts): 0.125W; Package: 0805; Value: 39k; Tolerance: 5%
footprint 0805
footprint 0603 (Chip Resistor, 2-Leads, Body 1.60x0.80mm, IPC High Density)
pins: 1 R1, 2 R2

## RES 43.0 1/8W
designator R?, comment 43
RES SMD 43 OHM 5% 1/8W 0805; Power (Watts): 0.125W; Package: 0805; Value: 43; Tolerance: 5%
footprint 0805
pins: 1 R1, 2 R2

## RES 43k 1/8W
designator R?, comment 43k
RES SMD 43K OHM 5% 1/8W 0805; Power (Watts): 0.125W; Package: 0805; Value: 43k; Tolerance: 5%
footprint 0805
pins: 1 R1, 2 R2

## RES 47 1/3W
designator R?, comment 47
RES SMD 47 OHM 1% 1/3W 0603; Power (W): 1/3; Package: 0603; Value: 47; Tolerance: 1%
footprint 0603 (Chip Resistor, 2-Leads, Body 1.60x0.80mm, IPC High Density)
pins: 1 R1, 2 R2

## RES 47.0 1/8W - 1%
designator R?, comment 47
RES SMD 47 OHM 1% 1/8W 0805; Power (Watts): 0.125W; Package: 0805; Value: 47; Tolerance: 1%
footprint 0805
footprint 0603 (Chip Resistor, 2-Leads, Body 1.60x0.80mm, IPC High Density)
pins: 1 R1, 2 R2

## RES 47.0 1/8W - 5%
designator R?, comment 47
RES SMD 47 OHM 5% 1/8W 0805; Power (Watts): 0.125W; Package: 0805; Value: 47; Tolerance: 5%
footprint 0805
footprint 0603 (Chip Resistor, 2-Leads, Body 1.60x0.80mm, IPC High Density)
pins: 1 R1, 2 R2

## RES 47k 1/8W - 1%
designator R?, comment 47k
RES SMD 47K OHM 1% 1/8W 0805; Power (Watts): 0.125W; Package: 0805; Value: 47k; Tolerance: 1%
footprint 0805
footprint 0603
pins: 1 R1, 2 R2

## RES 47k 1/8W - 5%
designator R?, comment 47k
RES SMD 47k OHM 5% 1/8W 0805; Power (Watts): 0.125W; Package: 0805; Value: 47k; Tolerance: 5%
footprint 0805
footprint 0603
pins: 1 R1, 2 R2

## RES 49.9 1/8W
designator R?, comment 49.9
RES SMD 49.9 OHM 1% 1/8W 0805; Power (Watts): 0.125W; Package: 0805; Value: 49.9; Tolerance: 1%
footprint 0805
footprint 0603 (Chip Resistor, 2-Leads, Body 1.60x0.80mm, IPC High Density)
pins: 1 R1, 2 R2

## RES 51.0 1/8W
designator R?, comment 51
RES SMD 51 OHM 5% 1/8W 0805; Power (Watts): 0.125W; Package: 0805; Value: 51; Tolerance: 5%
footprint 0805
pins: 1 R1, 2 R2

## RES 51k 1/8W
designator R?, comment 51k
RES SMD 51K OHM 5% 1/8W 0805; Power (Watts): 0.125W; Package: 0805; Value: 51k; Tolerance: 5%
footprint 0805
pins: 1 R1, 2 R2

## RES 56.0 1/8W
designator R?, comment 56
RES SMD 56 OHM 5% 1/8W 0805; Power (Watts): 0.125W; Package: 0805; Value: 56; Tolerance: 5%
footprint 0805
pins: 1 R1, 2 R2

## RES 56.2k 1/10W
designator R?, comment 56.2k
RES SMD 56.2K OHM 1% 1/10W 0603; Power (Watts): 0.1W; Package: 0603; Value: 56.2k; Tolerance: 1%
footprint 0603
footprint 0805
pins: 1 R1, 2 R2

## RES 56k 1/8W
designator R?, comment 56k
RES SMD 56K OHM 5% 1/8W 0805; Power (Watts): 0.125W; Package: 0805; Value: 56k; Tolerance: 5%
footprint 0805
pins: 1 R1, 2 R2

## RES 62.0 1/8W
designator R?, comment 62
RES SMD 62 OHM 5% 1/8W 0805; Power (Watts): 0.125W; Package: 0805; Value: 62; Tolerance: 5%
footprint 0805
pins: 1 R1, 2 R2

## RES 62k 1/8W
designator R?, comment 62k
RES SMD 62K OHM 5% 1/8W 0805; Power (Watts): 0.125W; Package: 0805; Value: 62k; Tolerance: 5%
footprint 0805
pins: 1 R1, 2 R2

## RES 63.4k 1/8W
designator R?, comment 63.4k
RES SMD 63.4K OHM 5% 1/8W 0603/0805; Power (Watts): 0.125W; Package: 0805; Value: 63.4k; Tolerance: 5%
footprint 0805
footprint 0603 (Chip Resistor, 2-Leads, Body 1.60x0.80mm, IPC High Density)
pins: 1 R1, 2 R2

## RES 64.9k 1/8W
designator R?, comment 64.9k
RES SMD 64.9K OHM 1% 1/8W 0805; Power (Watts): 0.125W; Package: 0805; Value: 64.9k; Tolerance: 1%; ComponentLink1Description: digikey; ComponentLink1URL: https://www.digikey.ca/en/products/detail/yageo/RC0805FR-0764K9L/728090
footprint 0805
footprint 0603 (Chip Resistor, 2-Leads, Body 1.60x0.80mm, IPC High Density)
pins: 1 R1, 2 R2

## RES 68.0 1/8W
designator R?, comment 68
RES SMD 68 OHM 5% 1/8W 0805; Power (Watts): 0.125W; Package: 0805; Value: 68; Tolerance: 5%
footprint 0805
pins: 1 R1, 2 R2

## RES 68k 1/8W
designator R?, comment 68k
RES SMD 68K OHM 5% 1/8W 0805; Power (Watts): 0.125W; Package: 0805; Value: 68k; Tolerance: 5%
footprint 0805
pins: 1 R1, 2 R2

## RES 75.0 1/8W - 1%
designator R?, comment 75
RES SMD 75 OHM 1% 1/8W 0805; Power (Watts): 0.125W; Package: 0805; Value: 75; Tolerance: 1%
footprint 0805
pins: 1 R1, 2 R2

## RES 75.0 1/8W - 5%
designator R?, comment 75
RES SMD 75 OHM 5% 1/8W 0603/0805; Power (Watts): 0.125W; Package: 0805; Value: 75; Tolerance: 5%
footprint 0805
footprint 0603 (Chip Resistor, 2-Leads, Body 1.60x0.80mm, IPC High Density)
pins: 1 R1, 2 R2

## RES 75k 1/8W
designator R?, comment 75k
RES SMD 75K OHM 5% 1/8W 0805; Power (Watts): 0.125W; Package: 0805; Value: 75k; Tolerance: 5%
footprint 0805
pins: 1 R1, 2 R2

## RES 82.0 1/8W
designator R?, comment 82
RES SMD 82 OHM 5% 1/8W 0805; Power (Watts): 0.125W; Package: 0805; Value: 82; Tolerance: 5%
footprint 0805
pins: 1 R1, 2 R2

## RES 82k 1/8W
designator R?, comment 82k
RES SMD 82K OHM 5% 1/8W 0805; Power (Watts): 0.125W; Package: 0805; Value: 82k; Tolerance: 5%
footprint 0805
pins: 1 R1, 2 R2

## RES 91.0 1/8W
designator R?, comment 91
RES SMD 91 OHM 5% 1/8W 0805; Power (Watts): 0.125W; Package: 0805; Value: 91; Tolerance: 5%
footprint 0805
pins: 1 R1, 2 R2

## RES 91k 1/8W - 1%
designator R?, comment 91k
RES SMD 91K OHM 1% 1/8W 0805; Power (Watts): 0.125W; Package: 0805; Value: 91k; Tolerance: 1%
footprint 0805
pins: 1 R1, 2 R2

## RES 91k 1/8W - 5%
designator R?, comment 91k
RES SMD 91K OHM 5% 1/8W 0805; Power (Watts): 0.125W; Package: 0805; Value: 91k; Tolerance: 5%
footprint 0805
pins: 1 R1, 2 R2

## RES 100.0 1/8W
designator R?, comment 100
RES SMD 100 OHM 5% 1/8W 0603/0805; Power (Watts): 0.125W; Package: 0805; Value: 100; Tolerance: 5%
footprint 0805
footprint 0603 (Chip Resistor, 2-Leads, Body 1.60x0.80mm, IPC High Density)
pins: 1 R1, 2 R2

## RES 100k 1/8W - 1%
designator R?, comment 100k
RES SMD 100K OHM 1% 1/8W 0805/0603; Power (Watts): 0.125W; Package: 0805; Value: 100k; Tolerance: 1%
footprint 0805
footprint 0603
pins: 1 R1, 2 R2

## RES 100k 1/8W - 5%
designator R?, comment 100k
RES SMD 100K OHM 5% 1/8W 0805/0603; Power (Watts): 0.125W; Package: 0805; Value: 100k; Tolerance: 5%
footprint 0805
footprint 0603
pins: 1 R1, 2 R2

## RES 110.0 1/8W - 1%
designator R?, comment 110
RES SMD 110 OHM 1% 1/8W 0805/0603; Power (Watts): 0.125W; Package: 0805; Value: 110; Tolerance: 1%
footprint 0805
footprint 0603 (Chip Resistor, 2-Leads, Body 1.60x0.80mm, IPC High Density)
pins: 1 R1, 2 R2

## RES 110.0 1/8W - 5%
designator R?, comment 110
RES SMD 110 OHM 5% 1/8W 0805/0603; Power (Watts): 0.125W; Package: 0805; Value: 110; Tolerance: 5%
footprint 0805
footprint 0603 (Chip Resistor, 2-Leads, Body 1.60x0.80mm, IPC High Density)
pins: 1 R1, 2 R2

## RES 110k 1/8W
designator R?, comment 110k
RES SMD 110K OHM 5% 1/8W 0805; Power (Watts): 0.125W; Package: 0805; Value: 110k; Tolerance: 5%
footprint 0805
pins: 1 R1, 2 R2

## RES 120.0 1/8W
designator R?, comment 120
RES SMD 120 OHM 5% 1/8W 0805; Power (Watts): 0.125W; Package: 0805; Value: 120; Tolerance: 5%
footprint 0805
pins: 1 R1, 2 R2

## RES 120k 1/8W
designator R?, comment 120k
RES SMD 120K OHM 5% 1/8W 0805; Power (Watts): 0.125W; Package: 0805; Value: 120k; Tolerance: 5%
footprint 0805
pins: 1 R1, 2 R2

## RES 130.0 1/8W
designator R?, comment 130
RES SMD 130 OHM 5% 1/8W 0805; Power (Watts): 0.125W; Package: 0805; Value: 130; Tolerance: 5%
footprint 0805
pins: 1 R1, 2 R2

## RES 130k 1/8W
designator R?, comment 130k
RES SMD 130K OHM 5% 1/8W 0805; Power (Watts): 0.125W; Package: 0805; Value: 130k; Tolerance: 5%
footprint 0805
pins: 1 R1, 2 R2

## RES 150.0 1/8W - 1%
designator R?, comment 150
RES SMD 150 OHM 1% 1/8W 0603/0805; Power (Watts): 0.125W; Package: 0805; Value: 150; Tolerance: 1%
footprint 0805
footprint 0603 (Chip Resistor, 2-Leads, Body 1.60x0.80mm, IPC High Density)
pins: 1 R1, 2 R2

## RES 150.0 1/8W - 5%
designator R?, comment 150
RES SMD 150 OHM 5% 1/8W 0603/0805; Power (Watts): 0.125W; Package: 0805; Value: 150; Tolerance: 5%
footprint 0805
footprint 0603 (Chip Resistor, 2-Leads, Body 1.60x0.80mm, IPC High Density)
pins: 1 R1, 2 R2

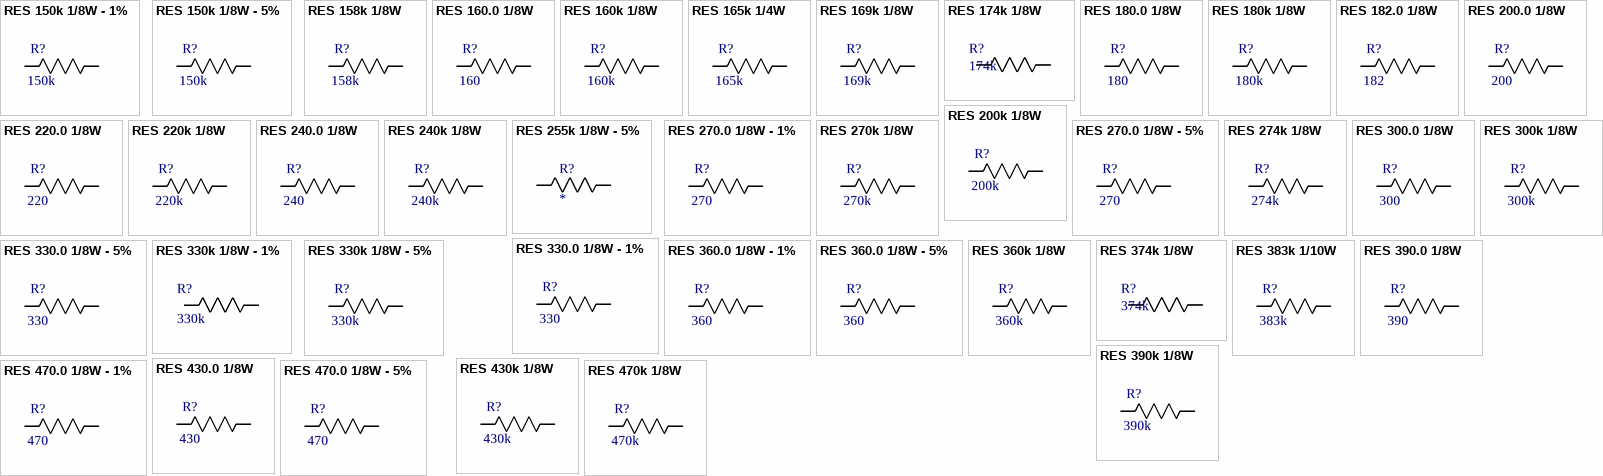
[diagram p12: symbols RES 150k 1/8W - 1% to RES 470k 1/8W]

## RES 150k 1/8W - 1%
designator R?, comment 150k
RES SMD 150K OHM 1% 1/8W 0805; Power (Watts): 0.125W; Package: 0805; Value: 150k; Tolerance: 1%
footprint 0805
pins: 1 R1, 2 R2

## RES 150k 1/8W - 5%
designator R?, comment 150k
RES SMD 150K OHM 5% 1/8W 0805; Power (Watts): 0.125W; Package: 0805; Value: 150k; Tolerance: 5%
footprint 0805
pins: 1 R1, 2 R2

## RES 158k 1/8W
designator R?, comment 158k
RES SMD 158K OHM 5% 1/8W 0805; Power (Watts): 0.125W; Package: 0805; Value: 158k; Tolerance: 5%
footprint 0805
pins: 1 R1, 2 R2

## RES 160.0 1/8W
designator R?, comment 160
RES SMD 160 OHM 5% 1/8W 0805; Power (Watts): 0.125W; Package: 0805; Value: 160; Tolerance: 5%
footprint 0805
pins: 1 R1, 2 R2

## RES 160k 1/8W
designator R?, comment 160k
RES SMD 160K OHM 5% 1/8W 0805; Power (Watts): 0.125W; Package: 0805; Value: 160k; Tolerance: 5%
footprint 0805
pins: 1 R1, 2 R2

## RES 165k 1/4W
designator R?, comment 165k
RES SMD 165K OHM 1% 1/4W 0805; Power (Watts): 0.25W; Package: 0805; Value: 165k; Tolerance: 1%
footprint 0805
pins: 1 R1, 2 R2

## RES 169k 1/8W
designator R?, comment 169k
RES SMD 169K OHM 1% 1/8W 0805; Power (Watts): 0.125W; Package: 0805; Value: 169k; Tolerance: 1%; ComponentLink1Description: digikey; ComponentLink1URL: https://www.digikey.ca/en/products/detail/yageo/RC0805FR-07169KL/727634
footprint 0805
pins: 1 R1, 2 R2

## RES 174k 1/8W
designator R?, comment 174k
RES SMD 174K OHM 1% 1/8W 0805/0603; Manufacturer: Yageo; Manufacturer Part Number: RC0805FR-07174KL; Max Power Dissipation: 125mW; Resistance: 174kR; Temperature Coefficient: 100ppm/°C; Voltage Rating: 150V; Supplier 1: Digi-Key; RoHS: Yes; Category: Chip SMD Resistors; Stock 1: 27863; Pricing 1: 1=0.10000, 10=0.04000, 100=0.01630, 1000=0.00731, 2500=0.00635 (USD); Case/Package: 0805; Case Code (Metric): 2012; Case Code (Imperial): 0805; Contact Plating: Tin,Matte; Min Operating Temperature: -55°C; Max Operating Temperature: 155°C; Package Quantity: 1; Power Rating: 125mW; Tolerance: 1%; Packaging: Tape and Reel; Features: Moisture Resistant; Composition: Thick Film; Number of Terminations: 2; Termination: SMD/SMT; Military Standard: Not; Voltage Rating (DC): 150V; Length: 2mm; Height: 0.024inch; Width: 0.049inch; Depth: 1.25mm; Radiation Hardening: No; Lead Free: Lead Free; ComponentLink1URL: https://datasheet.ciiva.com/2509/pyu-r-int-thick-7-2509472.pdf?src-supplier=Digi-Key; ComponentLink1Description: https://datasheet.ciiva.com/2509/pyu-r-int-thick-7-2509472.pdf?src-supplier=Digi-Key; ComponentLink2URL: https://datasheet.ciiva.com/2509/pyu-r-int-thick-7-2509471.pdf?src-supplier=Digi-Key; ComponentLink2Description: https://datasheet.ciiva.com/2509/pyu-r-int-thick-7-2509471.pdf?src-supplier=Digi-Key; ComponentLink3URL: https://datasheet.ciiva.com/2509/pyu-r-int-thick-7-2509473.pdf?src-supplier=Digi-Key; ComponentLink3Description: https://datasheet.ciiva.com/2509/pyu-r-int-thick-7-2509473.pdf?src-supplier=Digi-Key; Supplier Part Number 1: 311-174KCRCT-ND
footprint 0805
footprint 0603 (Chip Resistor, 2-Leads, Body 1.60x0.80mm, IPC High Density)
pins: 1 R1, 2 R2

## RES 180.0 1/8W
designator R?, comment 180
RES SMD 180 OHM 5% 1/8W 0805; Power (Watts): 0.125W; Package: 0805; Value: 180; Tolerance: 5%
footprint 0805
pins: 1 R1, 2 R2

## RES 180k 1/8W
designator R?, comment 180k
RES SMD 180K OHM 5% 1/8W 0805; Power (Watts): 0.125W; Package: 0805; Value: 180k; Tolerance: 5%
footprint 0805
pins: 1 R1, 2 R2

## RES 182.0 1/8W
designator R?, comment 182
RES SMD 182 OHM 1% 1/8W 0805; Power (Watts): 0.125W; Package: 0805; Value: 182; Tolerance: 1%
footprint 0805
footprint 0603 (Chip Resistor, 2-Leads, Body 1.60x0.80mm, IPC High Density)
pins: 1 R1, 2 R2

## RES 200.0 1/8W
designator R?, comment 200
RES SMD 200 OHM 5% 1/8W 0805; Power (Watts): 0.125W; Package: 0805; Value: 200; Tolerance: 5%
footprint 0805
footprint 0603 (Chip Resistor, 2-Leads, Body 1.60x0.80mm, IPC High Density)
pins: 1 R1, 2 R2

## RES 200k 1/8W
designator R?, comment 200k
RES SMD 200K OHM 5% 1/8W 0805; Power (Watts): 0.125W; Package: 0805; Value: 200k; Tolerance: 5%
footprint 0805
footprint 0603 (Chip Resistor, 2-Leads, Body 1.60x0.80mm, IPC High Density)
pins: 1 R1, 2 R2

## RES 220.0 1/8W
designator R?, comment 220
RES SMD 220 OHM 5% 1/8W 0805; Power (Watts): 0.125W; Package: 0805; Value: 220; Tolerance: 5%
footprint 0805
pins: 1 R1, 2 R2

## RES 220k 1/8W
designator R?, comment 220k
RES SMD 220K OHM 5% 1/8W 0805; Power (Watts): 0.125W; Package: 0805; Value: 220k; Tolerance: 5%
footprint 0805
pins: 1 R1, 2 R2

## RES 240.0 1/8W
designator R?, comment 240
RES SMD 240 OHM 5% 1/8W 0805; Power (Watts): 0.125W; Package: 0805; Value: 240; Tolerance: 5%
footprint 0805
pins: 1 R1, 2 R2

## RES 240k 1/8W
designator R?, comment 240k
RES SMD 240K OHM 5% 1/8W 0805; Power (Watts): 0.125W; Package: 0805; Value: 240k; Tolerance: 5%
footprint 0805
pins: 1 R1, 2 R2

## RES 255k 1/8W - 5%
designator R?
0805/0603 Resistor, 6A, 0.125W, 25ppm, 0.1%, 255K
footprint 0603 (Chip Resistor, 2-Leads, Body 1.60x0.80mm, IPC High Density)
footprint 0805
pins: 1 R1, 2 R2

## RES 270.0 1/8W - 1%
designator R?, comment 270
RES SMD 270 OHM 1% 1/8W 0603/0805; Power (Watts): 0.125W; Package: 0805; Value: 270; Tolerance: 1%
footprint 0805
footprint 0603 (Chip Resistor, 2-Leads, Body 1.60x0.80mm, IPC High Density)
pins: 1 R1, 2 R2

## RES 270.0 1/8W - 5%
designator R?, comment 270
RES SMD 270 OHM 5% 1/8W 0603/0805; Power (Watts): 0.125W; Package: 0805; Value: 270; Tolerance: 5%
footprint 0805
footprint 0603 (Chip Resistor, 2-Leads, Body 1.60x0.80mm, IPC High Density)
pins: 1 R1, 2 R2

## RES 270k 1/8W
designator R?, comment 270k
RES SMD 270K OHM 5% 1/8W 0805/0603; Power (Watts): 0.125W; Package: 0805; Value: 270k; Tolerance: 5%
footprint 0805
footprint 0603 (Chip Resistor, 2-Leads, Body 1.60x0.80mm, IPC High Density)
pins: 1 R1, 2 R2

## RES 274k 1/8W
designator R?, comment 274k
RES SMD 274K OHM 1% 1/8W 0805; MP: RC0805FR-07274KL; MF: Yageo; Rating: 0.125W; Digikey: 311-274KCRCT-ND; Price: 0.061 CAD; Package: 0805; Value: 274k; Digikey Link: https://www.digikey.ca/products/en?keywords=311-274KCRCT-ND; Tolerance: 1%
footprint 0805
pins: 1 R1, 2 R2

## RES 300.0 1/8W
designator R?, comment 300
RES SMD 300 OHM 5% 1/8W 0805; Power (Watts): 0.125W; Package: 0805; Value: 300; Tolerance: 5%
footprint 0805
pins: 1 R1, 2 R2

## RES 300k 1/8W
designator R?, comment 300k
RES SMD 300K OHM 5% 1/8W 0805; Power (Watts): 0.125W; Package: 0805; Value: 300k; Tolerance: 5%
footprint 0805
pins: 1 R1, 2 R2

## RES 330.0 1/8W - 1%
designator R?, comment 330
RES SMD 330 OHM 1% 1/8W 0805; Rating: 0.125W; Package: 0805; Value: 330; Tolerance: 1%
footprint 0805
footprint 0603 (Chip Resistor, 2-Leads, Body 1.60x0.80mm, IPC High Density)
pins: 1 R1, 2 R2

## RES 330.0 1/8W - 5%
designator R?, comment 330
RES SMD 330 OHM 5% 1/8W 0805; Power (Watts): 0.125W; Package: 0805; Value: 330; Tolerance: 5%
footprint 0805
footprint 0603 (Chip Resistor, 2-Leads, Body 1.60x0.80mm, IPC High Density)
pins: 1 R1, 2 R2

## RES 330k 1/8W - 1%
designator R?, comment 330k
RES SMD 330K OHM 1% 1/8W 0805/0603
footprint 0805
footprint 0603 (Chip Resistor, 2-Leads, Body 1.60x0.80mm, IPC High Density)
pins: 1 R1, 2 R2

## RES 330k 1/8W - 5%
designator R?, comment 330k
RES SMD 330K OHM 5% 1/8W 0805/0603; Power (Watts): 0.125W; Package: 0805; Value: 330k; Tolerance: 5%
footprint 0805
footprint 0603 (Chip Resistor, 2-Leads, Body 1.60x0.80mm, IPC High Density)
pins: 1 R1, 2 R2

## RES 360.0 1/8W - 1%
designator R?, comment 360
RES SMD 360 OHM 1% 1/8W 0805; Power (Watts): 0.125W; Package: 0805; Value: 360; Tolerance: 1%
footprint 0805
pins: 1 R1, 2 R2

## RES 360.0 1/8W - 5%
designator R?, comment 360
RES SMD 360 OHM 5% 1/8W 0805; Power (Watts): 0.125W; Package: 0805; Value: 360; Tolerance: 5%
footprint 0805
pins: 1 R1, 2 R2

## RES 360k 1/8W
designator R?, comment 360k
RES SMD 360K OHM 5% 1/8W 0805; Power (Watts): 0.125W; Package: 0805; Value: 360k; Tolerance: 5%
footprint 0805
pins: 1 R1, 2 R2